# Altium schematic symbol library sensor.SchLib: 1 symbol
Pins are listed as number, name and electrical type; pins without a type are passive.

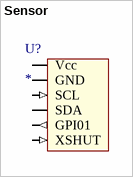
[diagram p0: symbol Sensor]

## Sensor
designator U?
pins: 1 Vcc (power), 2 GND (power), 3 SCL (in), 4 SDA (io), 5 GPI01 (out), 6 XSHUT (in)